# Altium schematic symbol library Resistors.SchLib: 8 symbols
Pins are listed as number, name and electrical type; pins without a type are passive.

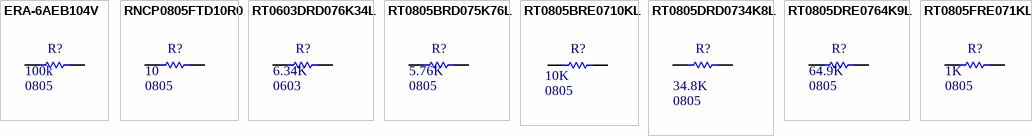
[diagram p0: symbols ERA-6AEB104V to RT0805FRE071KL]

## ERA-6AEB104V
designator R?  Package: 0805  Resistance: 100k  (hidden comment: *)
RES SMD 100K OHM 0.1% 1/8W 0805; Supplier 1: Digi-Key; Supplier Part Number 1: P100KDACT-ND
footprint RES0805 (Chip Resistor, 2-Leads, Body 2.00x1.25mm, IPC Medium Density)
pins: 1, 2

## RNCP0805FTD10R0
designator R?  Resistance: 10  Package: 0805  (hidden comment: *)
RES 10 OHM 1% 1/4W 0805; Tolerance: ±1%; Supplier 1: Digi-Key; Supplier Part Number 1: RNCP0805FTD10R0CT-ND
footprint RES0805 (Chip Resistor, 2-Leads, Body 2.00x1.25mm, IPC Medium Density)
pins: 1, 2

## RT0603DRD076K34L
designator R?  Resistance: 6.34K  Package: 0603  (hidden comment: *)
RES SMD 6.34KOHM 0.5% 1/10W 0603; Supplier 1: Digi-Key; Supplier Part Number 1: 311-6.34KDCT-ND
footprint RES0603 (Chip Resistor, 2-Leads, Body 1.60x0.82mm, IPC Medium Density)
pins: 1, 2

## RT0805BRD075K76L
designator R?  Resistance: 5.76K  Package: 0805  (hidden comment: *)
RES SMD 5.76K OHM 0.1% 1/8W 0805; Supplier 1: Digi-Key; Supplier Part Number 1: YAG4925CT-ND
footprint RES0805 (Chip Resistor, 2-Leads, Body 2.00x1.25mm, IPC Medium Density)
pins: 1, 2

## RT0805BRE0710KL
designator R?  Resistance: 10K  Package: 0805  (hidden comment: *)
RES SMD 10K OHM 0.1% 1/8W 0805; Supplier 1: Digi-Key; Supplier Part Number 1: YAG2327CT-ND
footprint RES0805 (Chip Resistor, 2-Leads, Body 2.00x1.25mm, IPC Medium Density)
pins: 1, 2

## RT0805DRD0734K8L
designator R?  Resistance: 34.8K  Package: 0805  (hidden comment: *)
RES SMD 34.8K OHM 0.5% 1/8W 0805; Supplier 1: Digi-Key; Supplier Part Number 1: 311-2737-1-ND
footprint RES0805 (Chip Resistor, 2-Leads, Body 2.00x1.25mm, IPC Medium Density)
pins: 1, 2

## RT0805DRE0764K9L
designator R?  Resistance: 64.9K  Package: 0805  (hidden comment: *)
RES SMD 64.9K OHM 0.5% 1/8W 0805; Supplier 1: Digi-Key; Supplier Part Number 1: 311-2889-1-ND
footprint RES0805 (Chip Resistor, 2-Leads, Body 2.00x1.25mm, IPC Medium Density)
pins: 1, 2

## RT0805FRE071KL
designator R?  Resistance: 1K  Package: 0805  (hidden comment: *)
RES SMD 1K OHM 1% 1/8W 0805; Supplier 1: Digi-Key; Supplier Part Number 1: YAG1240CT-ND
footprint RES0805 (Chip Resistor, 2-Leads, Body 2.00x1.25mm, IPC Medium Density)
pins: 1, 2